# Altium schematic symbol library MB1404_1.SCHLIB: 113 symbols (part 2 of 2)
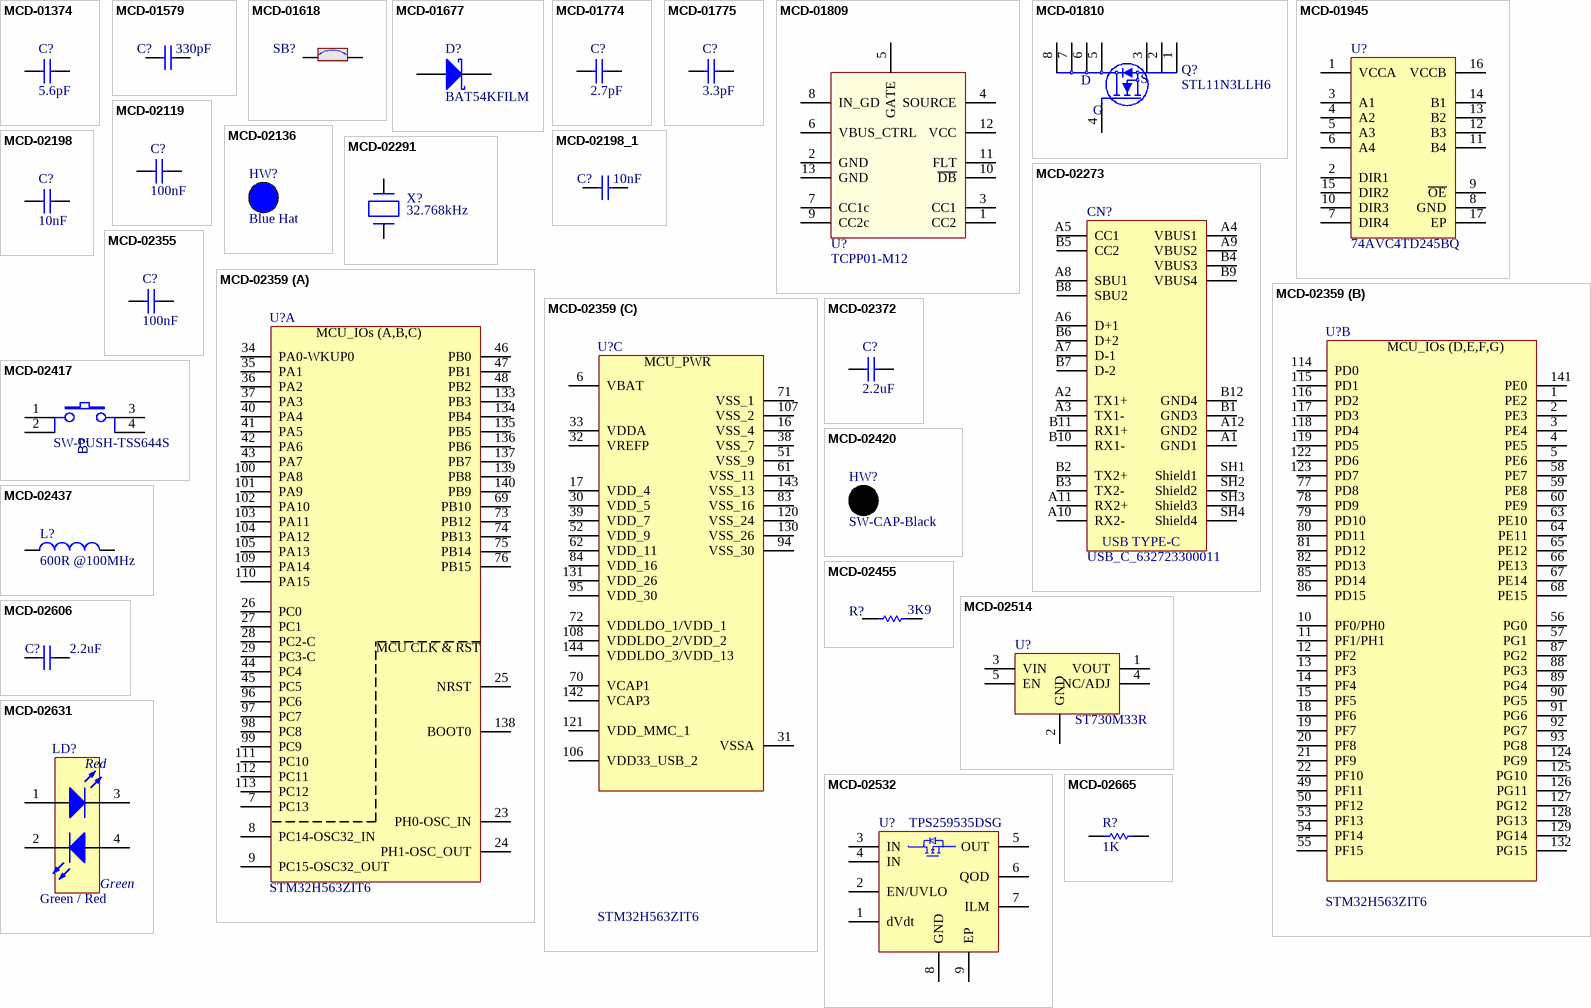
[diagram p4: symbols MCD-01374 to MCD-02665]

## MCD-01810
designator Q?, comment STL11N3LLH6
N-channel 30 V, 6 mΩ typ, 11 A STripFET™ H6, Power MOSFET in a PowerFLAT™ 3.3x3.3 package; Internal_Part_Number: MCD-01810; Part_Type: IC; Manufacturer: STMICROELECTRONICS; BMS_Part_Number: 9153561; ECCN_US: EAR99; ECCN_EU: NEC; Provided_By: SUBCO with ST control; Value: STL11N3LLH6; Status: Checked; Manufacturer_Part_Number: STL11N3LLH6; Package: PowerFLAT 3.3x3.3; ComponentLink1Description: Datasheet; ComponentLink1URL: http://tunmcdsvn.tun.st.com/Component_Datasheet_Library/Trunk/IC/STM_POWER_MOSFET_STL11N3LLH6
footprint MOS_POWERFLAT_3P3X3P3_P065
pins: 1 S, 2 S, 3 S, 4 G, 5 D, 6 D, 7 D, 8 D

## MCD-01945
designator U?, comment 74AVC4TD245BQ
4-bit dual supply translating transceiver with configurable voltage translation; 3-state; Internal_Part_Number: MCD-01945; Part_Type: IC; Manufacturer_Part_Number: 74AVC4TD245BQ,115; Manufacturer: NEXPERIA; Part_Preference: Recommended; Value: 74AVC4TD245BQ; Status: Released; Package: DHVQFN16; ComponentLink1URL: http://tunmcdsvn.tun.st.com/Component_Datasheet_Library/Trunk/IC/NEXPERIA_dual supply transceiver_74AVC4TD245; Order_Code_Digikey: 1727-6899-1-ND; Order_Code_Farnell: N/A; Order_Code_RS: N/A; Alternate_Manufacturer: N/A
footprint ICC_DHVQFN16-EPAD_SOT763-1_2P5X3P5_H0P85_P050
pins: 1 VCCA, 2 DIR1, 3 A1, 4 A2, 5 A3, 6 A4, 7 DIR4, 8 GND, 9 ~{OE}, 10 DIR3, 11 B4, 12 B3, 13 B2, 14 B1, 15 DIR2, 16 VCCB, 17 EP

## MCD-02119
designator C?, comment value 100nF  (hidden comment: Capacitor)
Capacitor, MLCC, 100nF, 6V3, X5R, +/-10%, 0603, T=0.8mm; Internal_Part_Number: MCD-02119; Part_Preference: Recommended; Manufacturer: KEMET; Manufacturer_Part_Number: C0603C104K9PACTU; Component_Country_Of_Origin: Mexico; ShowFields: YES; ID: 4219; Status: Checked; Part_Type: Capacitor; Package: 0603; ComponentLink1URL: http://tunmcdsvn.tun.st.com/Component_Documentation_Library/Trunk/Capacitor/KEMET_X5R_Series/C0603C104K9PACTU; Order_Code_Digikey: N/A; Order_Code_Farnell: 2941311; Order_Code_RS: N/A
footprint C0603
pins: 1, 2

## MCD-02136
designator HW?, comment value Blue Hat  (hidden comment: BUTTON_HAT_BLUE)  (mechanical)
Switch hat, blue, For KTSC-62B; Internal_Part_Number: MCD-02136; Part_Type: Misc; Part_Preference: Recommended; Manufacturer: APEM INC; Manufacturer_Part_Number: AKTSC62B; Order_Code_RS: 378-6779; Component_Country_Of_Origin: Unknown; ShowFields: YES; ID: 4236; Status: Checked; ComponentLink1URL: http://tunmcdsvn.tun.st.com/Component_Datasheet_Library/Trunk/Mechanical/APEM_BLUEHAT_KTSC62; Order_Code_Digikey: AKTSC62B-ND; Order_Code_Farnell: N/A

## MCD-02198
designator C?, comment value 10nF  (hidden comment: Capacitor)
Capacitor, MLCC, 10nF, 50V ,X7R, +/-10%, 0402, T=0.5mm; Internal_Part_Number: MCD-02198; Part_Preference: Recommended; Manufacturer: YAGEO; Manufacturer_Part_Number: CC0402KRX7R9BB103; Alternate_Manufacturer: TAIYO YUDEN; Alternate_Manufacturer_Part_Number: UMF105B7103KVHF; Order_Code_RS: 6169644; Status: Checked; Part_Type: Capacitor; Package: C0402; ComponentLink1URL: http://tunmcdsvn.tun.st.com/Component_Datasheet_Library/Trunk/Capacitors/Yageo_Multilayer_Capacitor_X7R_series_100pF_to_22uF/Yageo_Mutilayer_Capacitor_X7R_100pF_to_22uF.pdf; Order_Code_Digikey: N/A; Order_Code_Farnell: N/A
footprint C0402
pins: 1, 2

## MCD-02198_1
designator C?, comment value 10nF  (hidden comment: Capacitor)
Capacitor, MLCC, 10nF, 50V, X7R, +/-10%, 0402, T=0.5mm; Internal_Part_Number: MCD-02198; Part_Preference: Recommended; Manufacturer: YAGEO; Manufacturer_Part_Number: CC0402KRX7R9BB103; Order_Code_RS: 6169644; Component_Country_Of_Origin: China; Status: Checked; Part_Type: Capacitor; Package: 0402; ComponentLink1URL: http://tunmcdsvn.tun.st.com/Component_Documentation_Library/Trunk/Capacitor/YAGEO_X7R_Series; Order_Code_Digikey: N/A; Order_Code_Farnell: N/A
footprint C0402
pins: 1, 2

## MCD-02273
designator CN?, comment value USB_C_632723300011  (hidden comment: USB_TYPE_C_Receptacle)
Connector_USB_TypeC, 24pins, RA, TH, T=1.9mm (USB certified); Internal_Part_Number: MCD-02273; Part_Preference: Recommended; Manufacturer: WURTH ELEKTRONIK; Manufacturer_Part_Number: 632723300011; Component_Country_Of_Origin: China; ShowFields: YES; ID: 4373; Status: Released; Part_Type: Connector; ComponentLink1URL: http://tunmcdsvn.tun.st.com/Component_Datasheet_Library/Trunk/Connectors/WURTH_ELEKTRONIK_USB_TYPE-C_632723300011; Order_Code_Digikey: 732-9618-1-ND; Order_Code_Farnell: 2984404; Order_Code_RS: N/A
footprint CON_USB-TYPEC_WE_632723300011 (MCD-02273)
pins: A1 GND1, A2 TX1+, A3 TX1-, A4 VBUS1, A5 CC1, A6 D+1, A7 D-1, A8 SBU1, A9 VBUS2, A10 RX2-, A11 RX2+, A12 GND2, B1 GND3, B2 TX2+, B3 TX2-, B4 VBUS3, B5 CC2, B6 D+2, B7 D-2, B8 SBU2, B9 VBUS4, B10 RX1-, B11 RX1+, B12 GND4, SH1 Shield1, SH2 Shield2, SH3 Shield3, SH4 Shield4
text: USB TYPE-C

## MCD-02291
designator X?, comment value 32.768kHz  (hidden comment: XTAL_2_PINS)
Crystal, 32.768kHz, 9pF, +/-20ppm, 70KR, 1.6x1mm; Internal_Part_Number: MCD-02291; Part_Type: Crystal_Osc; Part_Preference: Recommended; Manufacturer: NDK; Manufacturer_Part_Number: NX1610SE-32.768KHZ-EXS00A-MU01499; Component_Country_Of_Origin: Unknown; ShowFields: YES; ID: 4391; Status: Released; Package: 1.6x1mm; ComponentLink1URL: http://tunmcdsvn.tun.st.com/Component_Datasheet_Library/Trunk/Crystal_Osc/NDK_NX1610SE 32.768KHz EXS00A-MU01499; Order_Code_Digikey: N/A; Order_Code_Farnell: N/A; Order_Code_RS: N/A
footprint CRY_NX1610SE_2P
pins: 1 X1, 2 X2

## MCD-02355
designator C?, comment value 100nF  (hidden comment: Capacitor)
Capacitor, MLCC, 100nF, 25V, X7R, +/-10%, 0402, T=0.5mm; Internal_Part_Number: MCD-02355; Part_Preference: Recommended; Manufacturer: WALSIN; Manufacturer_Part_Number: 0402B104K250CT; Order_Code_RS: 176-3114; Component_Country_Of_Origin: Unknown; Status: Checked; Part_Type: Capacitor; Package: 0402; ComponentLink1URL: http://tunmcdsvn.tun.st.com/Component_Documentation_Library/Trunk/Capacitor/WALSIN_Monolithic_Series/; Order_Code_Digikey: 1292-1175-1-ND; Order_Code_Farnell: 2496772
footprint C0402
pins: 1, 2

## MCD-02359
designator U?, comment STM32H563ZIT6
STM32H563ZIT6, LQFP144 package, 20x20; Internal_Part_Number: MCD-02359; Part_Type: IC; Manufacturer: STMICROELECTRONICS; Part_Preference: Recommended; Status: New; Manufacturer_Part_Number: STM32H563ZIT6; Package: LQFP144; ComponentLink1Description: Datasheet; ComponentLink1URL: http://tunmcdsvn.tun.st.com/Component_Datasheet_Library/Trunk/IC/STM_STM32L552ZET6QU; Value: STM32H563ZIT6
footprint ICC_LQFP144_20X20_P050_SOCKET_YAMAICHI_IC149-144-145-B5_NM
part A pins: 7 PC13, 8 PC14-OSC32_IN, 9 PC15-OSC32_OUT, 23 PH0-OSC_IN, 24 PH1-OSC_OUT, 25 NRST, 26 PC0, 27 PC1, 28 PC2-C, 29 PC3-C, 34 PA0-WKUP0, 35 PA1, 36 PA2, 37 PA3, 40 PA4, 41 PA5, 42 PA6, 43 PA7, 44 PC4, 45 PC5, 46 PB0, 47 PB1, 48 PB2, 69 PB10, 73 PB12, 74 PB13, 75 PB14, 76 PB15, 96 PC6, 97 PC7, 98 PC8, 99 PC9, 100 PA8, 101 PA9, 102 PA10, 103 PA11, 104 PA12, 105 PA13, 109 PA14, 110 PA15, 111 PC10, 112 PC11, 113 PC12, 133 PB3, 134 PB4, 135 PB5, 136 PB6, 137 PB7, 138 BOOT0, 139 PB8, 140 PB9
part B pins: 1 PE2, 2 PE3, 3 PE4, 4 PE5, 5 PE6, 10 PF0/PH0, 11 PF1/PH1, 12 PF2, 13 PF3, 14 PF4, 15 PF5, 18 PF6, 19 PF7, 20 PF8, 21 PF9, 22 PF10, 49 PF11, 50 PF12, 53 PF13, 54 PF14, 55 PF15, 56 PG0, 57 PG1, 58 PE7, 59 PE8, 60 PE9, 63 PE10, 64 PE11, 65 PE12, 66 PE13, 67 PE14, 68 PE15, 77 PD8, 78 PD9, 79 PD10, 80 PD11, 81 PD12, 82 PD13, 85 PD14, 86 PD15, 87 PG2, 88 PG3, 89 PG4, 90 PG5, 91 PG6, 92 PG7, 93 PG8, 114 PD0, 115 PD1, 116 PD2, 117 PD3, 118 PD4, 119 PD5, 122 PD6, 123 PD7, 124 PG9, 125 PG10, 126 PG11, 127 PG12, 128 PG13, 129 PG14, 132 PG15, 141 PE0
part C pins: 6 VBAT, 16 VSS_4, 17 VDD_4, 30 VDD_5, 31 VSSA, 32 VREFP, 33 VDDA, 38 VSS_7, 39 VDD_7, 51 VSS_9, 52 VDD_9, 61 VSS_11, 62 VDD_11, 70 VCAP1, 71 VSS_1, 72 VDDLDO_1/VDD_1, 83 VSS_16, 84 VDD_16, 94 VSS_30, 95 VDD_30, 106 VDD33_USB_2, 107 VSS_2, 108 VDDLDO_2/VDD_2, 120 VSS_24, 121 VDD_MMC_1, 130 VSS_26, 131 VDD_26, 142 VCAP3, 143 VSS_13, 144 VDDLDO_3/VDD_13
part A text: MCU_IOs (A,B,C); MCU CLK & RST
part B text: MCU_IOs (D,E,F,G)
part C text: MCU_PWR

## MCD-02372
designator C?, comment value 2.2uF  (hidden comment: Capacitor)
Capacitor, MLCC, 2.2uF, 25V, X7R, +/-10%, 0805, T=1,25mm; Internal_Part_Number: MCD-02372; Part_Preference: Recommended; Manufacturer: MURATA; Manufacturer_Part_Number: GRM21BR71E225KE11L; Status: New; Part_Type: Capacitor; Package: C0805; ComponentLink1URL: http://tunmcdsvn.tun.st.com/Component_Documentation_Library/Trunk/Capacitor/MURATA_GRM_Series/GRM21BR71E225KE11; Order_Code_Digikey: 490-14467; Order_Code_Farnell: 2688538
footprint C0805
pins: 1, 2

## MCD-02417
designator B?, comment value SW-PUSH-TSS644S  (hidden comment: SW_PUSH_SMD)
Push Button, NO, 0.05A, 12V, 2.6N, SMD, 9.0x6.2mm, T=7.3mm, changeable caps KTSC-6xx; Internal_Part_Number: MCD-02417; Part_Type: Misc; Part_Preference: Recommended; Manufacturer: KNITTER-SWITCH; Manufacturer_Part_Number: TSS644S; Status: Checked; Alternate_Manufacturer: N/A; Alternate_Manufacturer_Part_Number: N/A; Package: 9.0x6.2mm; ComponentLink1URL: http://tunmcdsvn.tun.st.com/Component_Documentation_Library/Trunk/Misc/KNITTER_TSS6x_Series; Order_Code_Digikey: N/A; Order_Code_Farnell: N/A; Order_Code_RS: N/A
footprint SWI_KNITTER_TSS644S
pins: 1, 2, 3, 4

## MCD-02420
designator HW?, comment SW-CAP-Black  (mechanical)
Black round cap for TSS6x series; Internal_Part_Number: MCD-02420; Part_Type: Mechanical; Part_Preference: Recommended; Manufacturer: KNITTER-SWITCH; Manufacturer_Part_Number: KTSC-62K; Value: SW-CAP-KTSC-62K; Order_code_Digikey: N/A; Order_code_Farnell: N/A; Order_code_RS: N/A; Status: Checked; ComponentLink1URL: http://tunmcdsvn.tun.st.com/Component_Documentation_Library/Trunk/Mechanical/KNITTER_KTSC-62_Series; Alternate_Manufacturer: N/A; Alternate_Manufacturer_Part_Number: N/A

## MCD-02437
designator L?, comment value 600R @100MHz  (hidden comment: BEAD)
Ferrite bead, 600R@100MHz, +/-25%, 500mA, 380mR, 0603, T=0.8mm; Internal_Part_Number: MCD-02437; Part_Type: Inductor; Part_Preference: Recommended; Manufacturer: MURATA; Manufacturer_Part_Number: BLM18AG601SN1D; Order_Code_RS: 724-1299; Status: Checked; Alternate_Manufacturer: N/A; Alternate_Manufacturer_Part_Number: N/A; Package: 0603; ComponentLink1URL: http://tunmcdsvn.tun.st.com/Component_Documentation_Library/Trunk/Inductor/MURATA_BLM_Series/MURATA_BLM18_Series/; Order_Code_Digikey: 490-1014-1-ND; Order_Code_Farnell: 1515679
footprint L0603
pins: 1, 2

## MCD-02455
designator R?, comment value 3K9  (hidden comment: Resistor)
Resistor, 3K9, 0402, +/-1%, 1/16W, +/-100ppm/°C; Internal_Part_Number: MCD-02455; Part_Preference: Recommended; Manufacturer: YAGEO; Manufacturer_Part_Number: RC0402FR-073K9L; Order_Code_RS: 198-7783; Component_Country_Of_Origin: China; ShowFields: YES; ID: 4561; Status: Released; Part_Type: Resistor; Package: 0402; ComponentLink1URL: http://tunmcdsvn.tun.st.com/Component_Documentation_Library/Trunk/Resistor/YAGEO_RC0402_Series; Order_Code_Digikey: 311-3.90KLRTR-ND; Order_Code_Farnell: 9239308
footprint R0402
pins: 1, 2

## MCD-02514
designator U?, comment ST730M33R
LDO, 3.3V, 300mA, High input voltage: 2.5V to 28V, SOT23-5L; Internal_Part_Number: MCD-02514; Part_Type: IC; Part_Preference: Recommended; Manufacturer: STMICROELECTRONICS; Value: ST730M33R; BMS_Part_Number: N/A; Status: New; Manufacturer_Part_Number: ST730M33R; Alternate_Manufacturer: N/A; Alternate_Manufacturer_Part_Number: N/A; Package: SOT23-5L; ComponentLink1URL: http://tunmcdsvn.tun.st.com/Component_Documentation_Library/Trunk/IC/STMICROELECTRONICS_ST730M33R; Order_Code_Digikey: N/A; Order_Code_Farnell: N/A; Order_Code_RS: N/A
footprint ICC_SOT23-5L_H1P45
pins: 1 VOUT, 2 GND, 3 VIN, 4 NC/ADJ, 5 EN

## MCD-02532
designator U?, comment TPS259535DSG
eFuse with Fast Overvoltage Protection 2.7V to 18V 4A 34mOhm 8-Pin WSON; Internal_Part_Number: MCD-02532; Part_Type: IC; Part_Preference: Recommended; Manufacturer: TEXAS INSTRUMENTS; Order_Code_RS: NA; Value: TPS259535DSG; Status: New; Manufacturer_Part_Number: TPS259535DSG; Package: WSON8; ComponentLink1URL: http://tunmcdsvn.tun.st.com/Component_Datasheet_Library/Trunk/IC/TI_eFuse_tps2595/TI_eFuse_tps2595.pdf; Order_Code_Digikey: N/A; Order_Code_Farnell: NA
footprint ICC_WSON8-EPAD_2X2_P050
pins: 1 dVdt, 2 EN/UVLO, 3 IN, 4 IN, 5 OUT, 6 QOD, 7 ILM, 8 GND, 9 EP

## MCD-02606
designator C?, comment value 2.2uF  (hidden comment: Capacitor)
Capacitor, MLCC, 2.2uF, 6.3V, X5R, +/-10%, 0402, T=0.5mm; Internal_Part_Number: MCD-02606; Part_Preference: Recommended; Manufacturer: YAGEO; Manufacturer_Part_Number: CC0402KRX5R5BB225; Order_Code_RS: 1992205; Status: New; Part_Type: Capacitor; Package: 0402; ComponentLink1URL: http://tunmcdsvn.tun.st.com/Component_Documentation_Library/Trunk/Capacitor/YAGEO_X5R_Series; Order_Code_Digikey: 311-1682-2-ND; Order_Code_Farnell: 3366429
footprint C0402
pins: 1, 2

## MCD-02631
designator LD?, comment value Green / Red  (hidden comment: LED_BICOLOR)
LED Bicolor, Green/Red, 2V, 20mA,  4-PLCC; Internal_Part_Number: MCD-02631; Part_Type: Display; Part_Preference: Recommended; Manufacturer: WURTH ELEKTRONIK; Manufacturer_Part_Number: 150141SV73110; Order_Code_RS: 184-6963; Status: Checked; Package: 4-PLCC; ComponentLink1URL: http://tunmcdsvn.tun.st.com/Component_Documentation_Library/Trunk/Display/WURTH_ELEKTRONIK_150141SV73110; Order_Code_Digikey: 732-13404-2-ND; Order_Code_Farnell: 2990869
footprint LED_BI-GR_WE-150141SV73110
pins: 1 Red_anode, 2 Green_cathode, 3 RED_cathode, 4 Green_anode
text: Red; Green

## MCD-02665
designator R?, comment value 1K  (hidden comment: Resistor)
Resistor, 1K, 0402, +/-0.1%, 1/16W, +/-25ppm/°C; Internal_Part_Number: MCD-02665; Part_Preference: Recommended; Manufacturer: YAGEO; Manufacturer_Part_Number: RT0402BRD071KL; Order_Code_RS: 199-1298; Status: Checked; Part_Type: Resistor; Package: 0402; ComponentLink1URL: http://tunmcdsvn.tun.st.com/Component_Documentation_Library/Trunk/Resistor/YAGEO_RT_Series; Order_Code_Digikey: YAG1386TR-ND; Order_Code_Farnell: 3496475
footprint R0402
pins: 1, 2

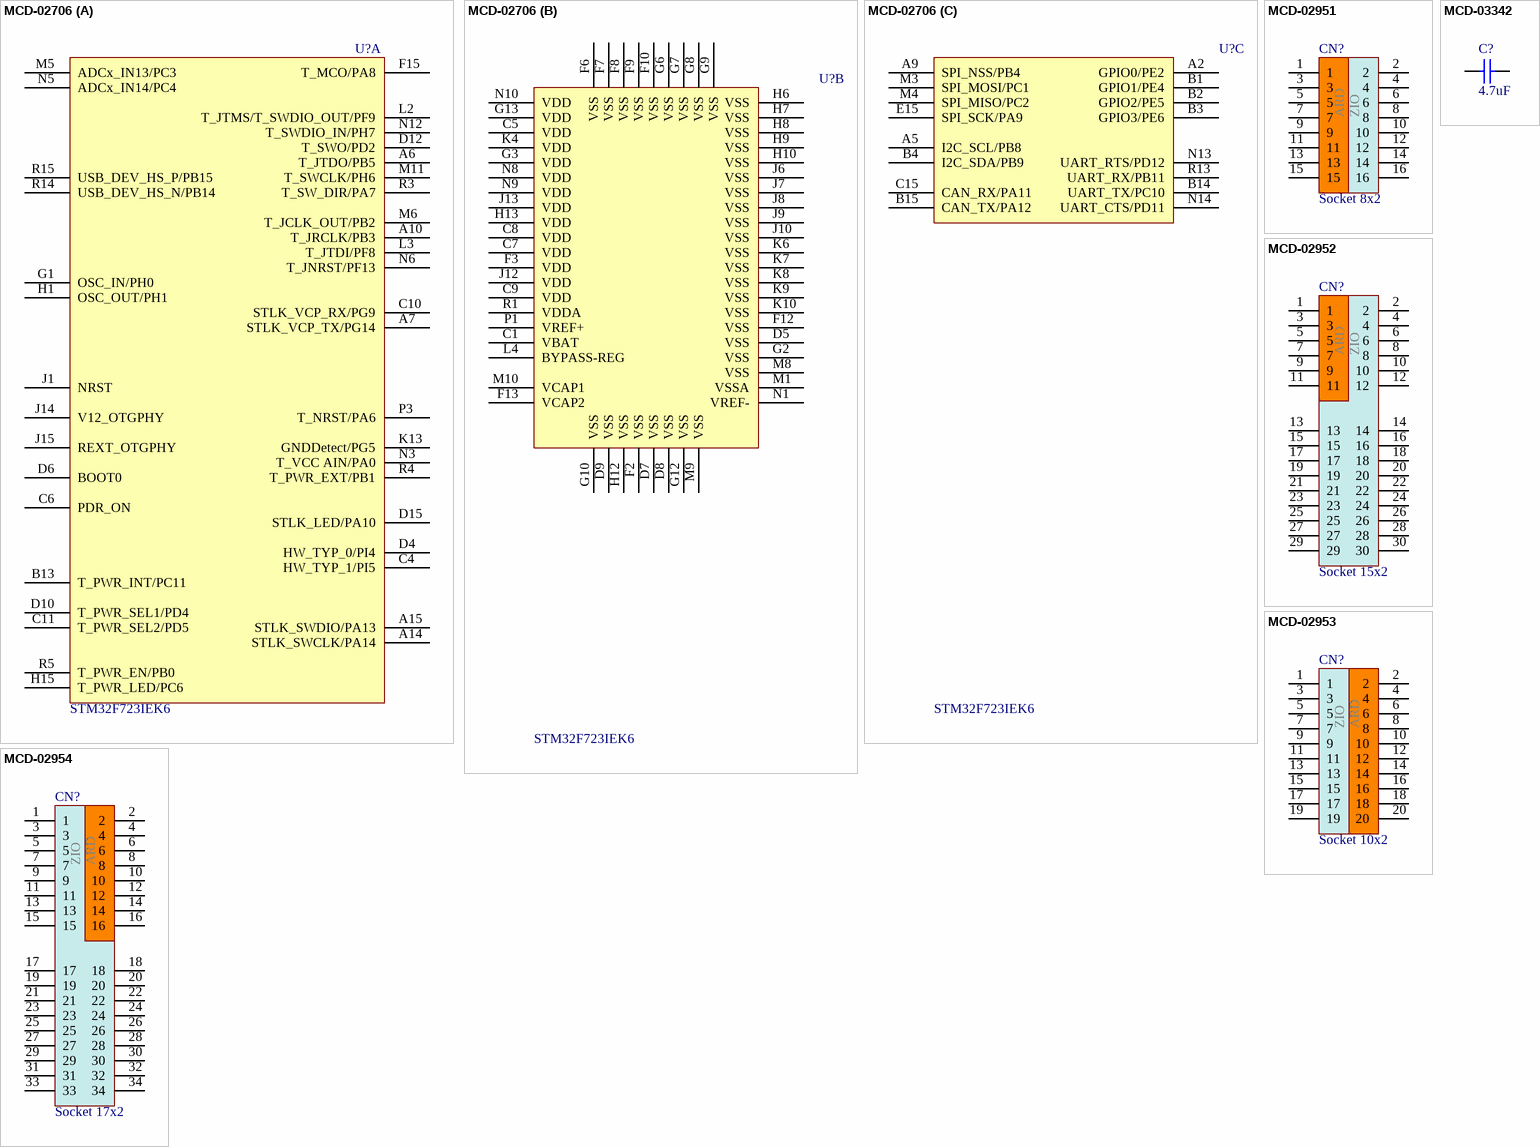
[diagram p3: symbols MCD-02706 to MCD-03342]

## MCD-02706
designator U?, comment value STM32F723IEK6  (hidden comment: STLINK-V3EC)
MCU, Arm Cortex-M7 32-bit MCU, 512KB Flash, 276KB RAM, With Crypto; Internal_Part_Number: MCD-02706; BMS_Part_Number: 9175300; Part_Type: IC; Part_Preference: Recommended; Manufacturer: STMICROELECTRONICS; Order_Code_RS: 135-8241; ShowFields: YES; ID: 4812; Status: Checked; Manufacturer_Part_Number: STM32F723IEK6; Package: BGA176; ComponentLink1URL: http://tunmcdsvn.tun.st.com/Component_Documentation_Library/IC/STMICROELECTRONICS_STM32F723IEK6; Order_Code_Digikey: 497-17186-ND; Order_Code_Farnell: 2725149
footprint ICC_UFBGA201_176+25_10X10_P065
part A pins: A6 T_JTDO/PB5, A7 STLK_VCP_TX/PG14, A10 T_JRCLK/PB3, A14 STLK_SWCLK/PA14, A15 STLK_SWDIO/PA13, B13 T_PWR_INT/PC11, C4 HW_TYP_1/PI5, C6 PDR_ON, C10 STLK_VCP_RX/PG9, C11 T_PWR_SEL2/PD5, D4 HW_TYP_0/PI4, D6 BOOT0, D10 T_PWR_SEL1/PD4, D12 T_SWO/PD2, D15 STLK_LED/PA10, F15 T_MCO/PA8, G1 OSC_IN/PH0, H1 OSC_OUT/PH1, H15 T_PWR_LED/PC6, J1 NRST, J14 V12_OTGPHY, J15 REXT_OTGPHY, K13 GNDDetect/PG5, L2 T_JTMS/T_SWDIO_OUT/PF9, L3 T_JTDI/PF8, M5 ADCx_IN13/PC3, M6 T_JCLK_OUT/PB2, M11 T_SWCLK/PH6, N3 T_VCC AIN/PA0, N5 ADCx_IN14/PC4, N6 T_JNRST/PF13, N12 T_SWDIO_IN/PH7, P3 T_NRST/PA6, R3 T_SW_DIR/PA7, R4 T_PWR_EXT/PB1, R5 T_PWR_EN/PB0, R14 USB_DEV_HS_N/PB14, R15 USB_DEV_HS_P/PB15
part B pins: C1 VBAT, C5 VDD, C7 VDD, C8 VDD, C9 VDD, D5 VSS, D7 VSS, D8 VSS, D9 VSS, F2 VSS, F3 VDD, F6 VSS, F7 VSS, F8 VSS, F9 VSS, F10 VSS, F12 VSS, F13 VCAP2, G2 VSS, G3 VDD, G6 VSS, G7 VSS, G8 VSS, G9 VSS, G10 VSS, G12 VSS, G13 VDD, H6 VSS, H7 VSS, H8 VSS, H9 VSS, H10 VSS, H12 VSS, H13 VDD, J6 VSS, J7 VSS, J8 VSS, J9 VSS, J10 VSS, J12 VDD, J13 VDD, K4 VDD, K6 VSS, K7 VSS, K8 VSS, K9 VSS, K10 VSS, L4 BYPASS-REG, M1 VSSA, M8 VSS, M9 VSS, M10 VCAP1, N1 VREF-, N8 VDD, N9 VDD, N10 VDD, P1 VREF+, R1 VDDA
part C pins: A2 GPIO0/PE2, A5 I2C_SCL/PB8, A9 SPI_NSS/PB4, B1 GPIO1/PE4, B2 GPIO2/PE5, B3 GPIO3/PE6, B4 I2C_SDA/PB9, B14 UART_TX/PC10, B15 CAN_TX/PA12, C15 CAN_RX/PA11, E15 SPI_SCK/PA9, M3 SPI_MOSI/PC1, M4 SPI_MISO/PC2, N13 UART_RTS/PD12, N14 UART_CTS/PD11, R13 UART_RX/PB11

## MCD-02951
designator CN?, comment value Socket 8x2  (hidden comment: Socket 8x2_N144_ARD)
Socket, 8x2, 2.54mm, VR, TH, T=8.51mm/10mm; Internal_Part_Number: MCD-02951; Part_Type: Connector; Part_Preference: Recommended; Manufacturer: SAMTEC; Manufacturer_Part_Number: SSQ-108-23-F-D; ShowFields: YES; ID: 5067; Status: New; ComponentLink1URL: http://tunmcdsvn.tun.st.com/Component_Documentation_Library/Trunk/Connector/SAMTEC_SSQ_Series/; Order_Code_Digikey: SSQ-108-23-F-D-ND; Order_Code_Farnell: N/A; Order_Code_RS: N/A
footprint CON_SAMTEC_SSQ-108-23-F-D
pins: 1, 2, 3, 4, 5, 6, 7, 8, 9, 10, 11, 12, 13, 14, 15, 16
text: ARD; ZIO

## MCD-02952
designator CN?, comment value Socket 15x2  (hidden comment: Socket 15x2_N144_ARD)
Socket, 15x2, 2.54mm, VR, TH, T=8.51mm/10mm; Internal_Part_Number: MCD-02952; Part_Type: Connector; Part_Preference: Recommended; Manufacturer: SAMTEC; Manufacturer_Part_Number: SSQ-115-23-F-D; ShowFields: YES; ID: 5068; Status: New; ComponentLink1URL: http://tunmcdsvn.tun.st.com/Component_Documentation_Library/Trunk/Connector/SAMTEC_SSQ_Series/; Order_Code_Digikey: SSQ-115-23-F-D-ND; Order_Code_Farnell: N/A; Order_Code_RS: N/A
footprint CON_SAMTEC_SSQ-115-23-F-D
pins: 1, 2, 3, 4, 5, 6, 7, 8, 9, 10, 11, 12, 13, 14, 15, 16, 17, 18, 19, 20, 21, 22, 23, 24, 25, 26, 27, 28, 29, 30
text: ARD; ZIO

## MCD-02953
designator CN?, comment value Socket 10x2  (hidden comment: Socket 10x2_N144_ARD)
Socket, 10x2, 2.54mm, VR, TH, T=8.51mm/10mm; Internal_Part_Number: MCD-02953; Part_Type: Connector; Part_Preference: Recommended; Manufacturer: SAMTEC; Manufacturer_Part_Number: SSQ-110-23-F-D; ShowFields: YES; ID: 5069; Status: New; ComponentLink1URL: http://tunmcdsvn.tun.st.com/Component_Documentation_Library/Trunk/Connector/SAMTEC_SSQ_Series/; Order_Code_Digikey: SSQ-110-23-F-D-ND; Order_Code_Farnell: N/A; Order_Code_RS: N/A
footprint CON_SAMTEC_SSQ-110-23-F-D
pins: 1, 2, 3, 4, 5, 6, 7, 8, 9, 10, 11, 12, 13, 14, 15, 16, 17, 18, 19, 20
text: ZIO; ARD

## MCD-02954
designator CN?, comment value Socket 17x2  (hidden comment: Socket 17x2_N144_ARD)
Socket, 17x2, 2.54mm, VR, TH, T=8.51mm/10mm; Internal_Part_Number: MCD-02954; Part_Type: Connector; Part_Preference: Recommended; Manufacturer: SAMTEC; Manufacturer_Part_Number: SSQ-117-23-F-D; ShowFields: YES; ID: 5070; Status: New; ComponentLink1URL: http://tunmcdsvn.tun.st.com/Component_Documentation_Library/Trunk/Connector/SAMTEC_SSQ_Series/; Order_Code_Digikey: SSQ-117-23-F-D-ND; Order_Code_Farnell: N/A; Order_Code_RS: N/A
footprint CON_SAMTEC_SSQ-117-23-F-D
pins: 1, 2, 3, 4, 5, 6, 7, 8, 9, 10, 11, 12, 13, 14, 15, 16, 17, 18, 19, 20, 21, 22, 23, 24, 25, 26, 27, 28, 29, 30, 31, 32, 33, 34
text: ZIO; ARD

## MCD-03342
designator C?, comment value 4.7uF  (hidden comment: Capacitor)
Capacitor, MLCC, 4.7uF, 10V, X5R, +/-20%, 0603, T=0.8mm; Internal_Part_Number: MCD-03342; Part_Preference: Recommended; Manufacturer: YAGEO; Manufacturer_Part_Number: CC0603MRX5R6BB475; Component_Country_Of_Origin: China, Taiwan; ShowFields: YES; ID: 5458; Status: Checked; Part_Type: Capacitor; Package: 0603; ComponentLink1URL: http://tunmcdsvn.tun.st.com/Component_Documentation_Library/Trunk/Capacitor/YAGEO_X5R_Series/; Order_Code_Digikey: 311-1820-2-ND; Order_Code_Farnell: 3369257; Order_Code_RS: N/A
footprint C0603_H0P8
pins: 1, 2